# Altium integrated library Headers_Connectors.IntLib: 46 symbols
Pins are listed as number, name and electrical type; pins without a type are passive.

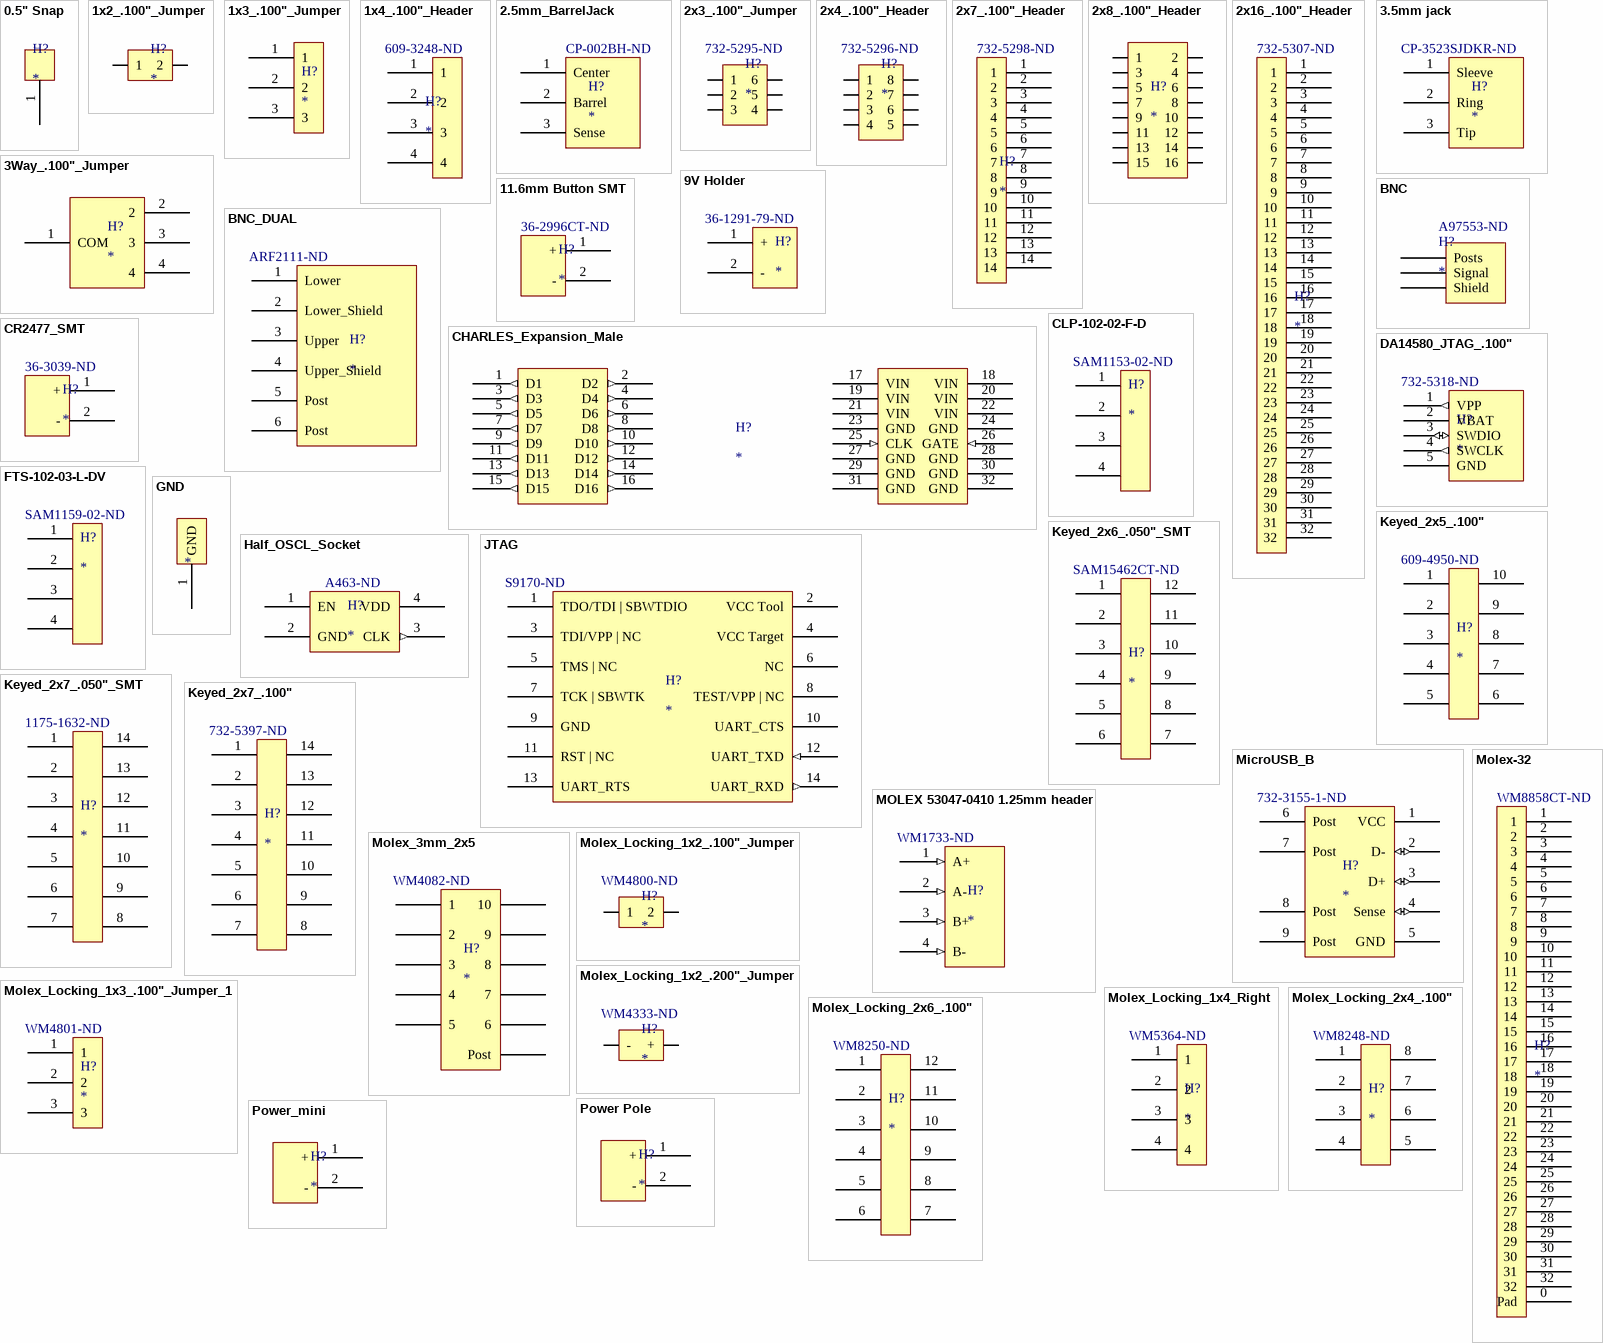
[diagram p0: symbols 0.5" Snap to Power_mini]

## 0.5" Snap
designator H?
footprint 0.5" Snap
pins: 1

## 1x2_.100"_Jumper
designator H?
Supplier 1: Digi-Key; Supplier Part Number 1: 609-4434-ND
footprint 1x2_.100"_Jumper
pins: 1, 2

## 1x3_.100"_Jumper
designator H?
Supplier 1: Digi-Key; Supplier Part Number 1: 609-3461-ND
footprint 1x3_.100"_Jumper
pins: 1, 2, 3

## 1x4_.100"_Header
designator H?  Supplier Part Number 1: 609-3248-ND
Supplier 1: Digi-Key
footprint 1x4_.100"_Header
pins: 1, 2, 3, 4

## 2.5mm_BarrelJack
designator H?  Supplier Part Number 1: CP-002BH-ND
2.5mmCenter Pin; Supplier 1: Digikey
footprint CUI_BarrelJack
pins: 1 Center (power), 2 Barrel (power), 3 Sense (power)

## 2x3_.100"_Jumper
designator H?  Supplier Part Number 1: 732-5295-ND
Supplier 1: Digi-Key
footprint 2x3_.100"_Jumper
pins: 1, 2, 3, 4, 5, 6

## 2x4_.100"_Header
designator H?  Supplier Part Number 1: 732-5296-ND
Supplier 1: Digi-Key
footprint 2x4_.100"_Header
pins: 1, 2, 3, 4, 5, 6, 7, 8

## 2x7_.100"_Header
designator H?  Supplier Part Number 1: 732-5298-ND
Supplier 1: Digi-Key
footprint 2x7_.100"_header2
footprint 2x7_.100"_header2Reverse
pins: 1, 2, 3, 4, 5, 6, 7, 8, 9, 10, 11, 12, 13, 14

## 2x8_.100"_Header
designator H?
footprint 2x8_.100"_header
pins: 1, 2, 3, 4, 5, 6, 7, 8, 9, 10, 11, 12, 13, 14, 15, 16

## 2x16_.100"_Header
designator H?  Supplier Part Number 1: 732-5307-ND
Supplier 1: Digi-Key
footprint 2x16_.100"_Header
pins: 1, 2, 3, 4, 5, 6, 7, 8, 9, 10, 11, 12, 13, 14, 15, 16, 17, 18, 19, 20, 21, 22, 23, 24, 25, 26, 27, 28, 29, 30, 31, 32

## 3.5mm jack
designator H?  Supplier Part Number 1: CP-3523SJDKR-ND
3.5mm audio; Supplier 1: Digi-Key
footprint 3.5mm Jack
pins: 1 Sleeve, 2 Ring, 3 Tip

## 3Way_.100"_Jumper
designator H?
footprint 3Way_.100"_Jumper
pins: 1 COM, 2, 3, 4

## 9V Holder
designator H?  Supplier Part Number 1: 36-1291-79-ND
9V clip; Supplier 1: Digi-Key
footprint 9V Holder
pins: 1 + (power), 2 - (power)

## 11.6mm Button SMT
designator H?  Supplier Part Number 1: 36-2996CT-ND
Supplier 1: Digikey
footprint KEYSTONE_11.6mm
pins: 1 + (power), 2 - (power)

## BNC
designator H?  Supplier Part Number 1: A97553-ND
BNC; Supplier 1: Digikey
footprint BNC
pins: 0 Posts, 1 Signal, 2 Shield

## BNC_DUAL
designator H?  Supplier Part Number 1: ARF2111-ND
Supplier 1: Digi-Key
footprint BNC_DUAL
pins: 1 Lower, 2 Lower_Shield, 3 Upper, 4 Upper_Shield, 5 Post, 6 Post

## CHARLES_Expansion_Male
designator H?
footprint CHARLES_Expansion_Male
pins: 1 D1 (out), 2 D2 (out), 3 D3 (out), 4 D4 (out), 5 D5 (out), 6 D6 (out), 7 D7 (out), 8 D8 (out), 9 D9 (out), 10 D10 (out), 11 D11 (out), 12 D12 (out), 13 D13 (out), 14 D14 (out), 15 D15 (out), 16 D16 (out), 17 VIN (power), 18 VIN (power), 19 VIN (power), 20 VIN (power), 21 VIN (power), 22 VIN (power), 23 GND (power), 24 GND (power), 25 CLK (in), 26 GATE (in), 27 GND (power), 28 GND (power), 29 GND (power), 30 GND (power), 31 GND (power), 32 GND (power)

## CLP-102-02-F-D
designator H?  Supplier Part Number 1: SAM1153-02-ND
Samtec CLP 2x2; Supplier 1: Digi-Key
footprint CLP-102-02-F-D (SAMTEC_CLP)
pins: 1, 2, 3, 4

## CR2477_SMT
designator H?  Supplier Part Number 1: 36-3039-ND
Supplier 1: Digi-Key
footprint KEYSTONE_CR2477
pins: 1 + (power), 2 - (power)

## DA14580_JTAG_.100"
designator H?  Supplier Part Number 1: 732-5318-ND
.100" JTAG; Supplier 1: Digi-Key
footprint DA14580_JTAG_.100"
pins: 1 VPP (out), 2 VBAT (power), 3 SWDIO (io), 4 SWCLK (out), 5 GND (power)

## FTS-102-03-L-DV
designator H?  Supplier Part Number 1: SAM1159-02-ND
Samtec FTS 2x2; Supplier 1: Digi-Key
footprint SAMTEC_FTS-102-03-L-DV (SAMTEC_FTS)
pins: 1, 2, 3, 4

## GND
designator GND
Supplier 1: Digi-Key; Supplier Part Number 1: 732-5314-ND
footprint 1x1_100"_TEST
pins: 1 GND (power)

## Half_OSCL_Socket
designator H?  Supplier Part Number 1: A463-ND
8-DIP, 4 Lead (Half Size); Supplier 1: Digi-Key
footprint Half_OSC_Socket (8-DIP, 4 Lead (Half Size)
pins: 1 EN, 2 GND (power), 3 CLK (out), 4 VDD (power)

## JTAG
designator H?  Supplier Part Number 1: S9170-ND
Supplier 1: Digi-Key
footprint MSP_JTAG
pins: 1 TDO/TDI | SBWTDIO, 2 VCC Tool, 3 TDI/VPP | NC, 4 VCC Target, 5 TMS | NC, 6 NC, 7 TCK | SBWTK, 8 TEST/VPP | NC, 9 GND (power), 10 UART_CTS, 11 RST | NC, 12 UART_TXD (in), 13 UART_RTS, 14 UART_RXD (out)

## Keyed_2x5_.100"
designator H?  Supplier Part Number 1: 609-4950-ND
Supplier 1: Digi-Key
footprint Keyed_2x5_.100"
pins: 1, 2, 3, 4, 5, 6, 7, 8, 9, 10

## Keyed_2x6_.050"_SMT
designator H?  Supplier Part Number 1: SAM15462CT-ND
Supplier 1: Digi-Key
footprint Keyed_2x6_.050"_SMT
pins: 1, 2, 3, 4, 5, 6, 7, 8, 9, 10, 11, 12

## Keyed_2x7_.050"_SMT
designator H?  Supplier Part Number 1: 1175-1632-ND
Supplier 1: Digi-Key
footprint Keyed_2x7_.050"_SMT
pins: 1, 2, 3, 4, 5, 6, 7, 8, 9, 10, 11, 12, 13, 14

## Keyed_2x7_.100"
designator H?  Supplier Part Number 1: 732-5397-ND
Supplier 1: Digi-Key
footprint Keyed_2x7_.100"
pins: 1, 2, 3, 4, 5, 6, 7, 8, 9, 10, 11, 12, 13, 14

## MicroUSB_B
designator H?  Supplier Part Number 1: 732-3155-1-ND
Wurth MicroUSB_B; Supplier 1: Digi-Key
footprint Wurth_MicroUSB_B (MicroUSB_B)
pins: 1 VCC (power), 2 D- (io), 3 D+ (io), 4 Sense (io), 5 GND (power), 6 Post, 7 Post, 8 Post, 9 Post

## MOLEX 53047-0410 1.25mm header
designator H?  Supplier Part Number 1: WM1733-ND
Supplier 1: Digi-Key
footprint MOLEX 53047-0410 1.25mm header
pins: 1 A+ (in), 2 A- (in), 3 B+ (in), 4 B- (in)

## Molex-32
designator H?  Supplier Part Number 1: WM8858CT-ND
Molex 32 SMT; Supplier 1: Digikey
footprint Molex-0541323262 (32SMT)
pins: 0 Pad, 1, 2, 3, 4, 5, 6, 7, 8, 9, 10, 11, 12, 13, 14, 15, 16, 17, 18, 19, 20, 21, 22, 23, 24, 25, 26, 27, 28, 29, 30, 31, 32

## Molex_3mm_2x5
designator H?  Supplier Part Number 1: WM4082-ND
Supplier 1: Digi-Key
footprint Molex_3mm_2x5
pins: 1, 2, 3, 4, 5, 6, 7, 8, 9, 10, 11 Post

## Molex_Locking_1x2_.100"_Jumper
designator H?  Supplier Part Number 1: WM4800-ND
Supplier 1: Digi-Key
footprint Molex_Locking_1x2_.100"_Jumper
pins: 1, 2

## Molex_Locking_1x2_.200"_Jumper
designator H?  Supplier Part Number 1: WM4333-ND
Power Connector; Supplier 1: Digi-Key
footprint Molex_Locking_1x2_.200"_Jumper (Power)
pins: 1 -, 2 +

## Molex_Locking_1x3_.100"_Jumper_1
designator H?  Supplier Part Number 1: WM4801-ND
Supplier 1: Digi-Key
footprint Molex_Locking_1x3_.100"_Jumper
pins: 1, 2, 3

## Molex_Locking_1x4_Right
designator H?  Supplier Part Number 1: WM5364-ND
Supplier 1: Digi-Key
footprint Molex_Locking_RIGHT
pins: 1, 2, 3, 4

## Molex_Locking_2x4_.100"
designator H?  Supplier Part Number 1: WM8248-ND
Supplier 1: Digi-Key
footprint Molex_Locking_2x4_.100"_Header
pins: 1, 2, 3, 4, 5, 6, 7, 8

## Molex_Locking_2x6_.100"
designator H?  Supplier Part Number 1: WM8250-ND
Supplier 1: Digi-Key
footprint Molex_Locking_2x6_.100"_Header
pins: 1, 2, 3, 4, 5, 6, 7, 8, 9, 10, 11, 12

## Power Pole
designator H?
footprint Wire Power Input
pins: 1 + (power), 2 - (power)

## Power_mini
designator H?
footprint Power_Mini
pins: 1 + (power), 2 - (power)

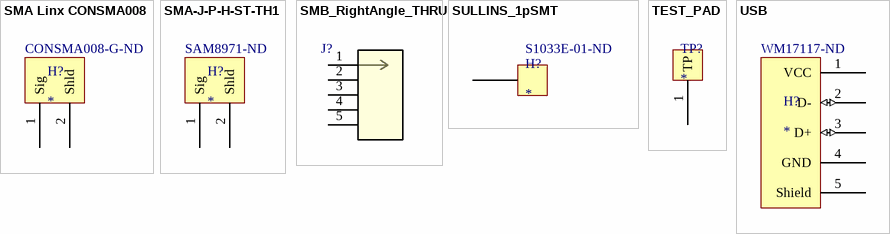
[diagram p1: symbols SMA Linx CONSMA008 to USB]

## SMA Linx CONSMA008
designator H?  Supplier Part Number 1: CONSMA008-G-ND
Samtec SMA Female Thru Panel; Supplier 1: Digi-Key
footprint SAMTEC_SMA-J-P-H-ST-TH1
pins: 1 Sig, 2 Shld

## SMA-J-P-H-ST-TH1
designator H?  Supplier Part Number 1: SAM8971-ND
Samtec SMA Female Thru; Supplier 1: Digi-Key
footprint SAMTEC_SMA-J-P-H-ST-TH1
pins: 1 Sig, 2 Shld

## SMB_RightAngle_THRU
designator J?, comment 1-1337481-0  (value not drawn)
SMB Connector Jack, Male Pin 50Ohm Through Hole, Right Angle Solder; Mfr_Name: TE Connectivity; Type: DEV; Copyright: Copyright (C) 2021 Ultra Librarian. All rights reserved.; Manufacturer_Part_Number: 1-1337481-0; Digi-Key_Part_Number_1: A101970-ND; Digi-Key_Part_Number_2: A101970-NDL; RefDes: RefDes; Supplier 1: Digi-Key; Supplier Part Number 1: A101970-ND
footprint TE_SMB_JACK_THRU (SMB Connector Jack, Male Pin 50Ohm Through Hole, Right Angle Solder)
pins: 1, 2, 3, 4, 5

## SULLINS_1pSMT
designator H?  Supplier Part Number 1: S1033E-01-ND
Supplier 1: Digi-Key
footprint SULLINS_1pin
pins: 1

## TEST_PAD
designator TP?
Supplier 1: Digi-Key; Supplier Part Number 1: 732-5314-ND
footprint 1x1_100"_TEST
pins: 1 TP

## USB
designator H?  Supplier Part Number 1: WM17117-ND
USB A Male; Supplier 1: Digikey
footprint USB_A_Male
pins: 1 VCC (power), 2 D- (io), 3 D+ (io), 4 GND (power), 5 Shield